# EAGLE library part XBEE_1-10 (library Cool_Electricity)
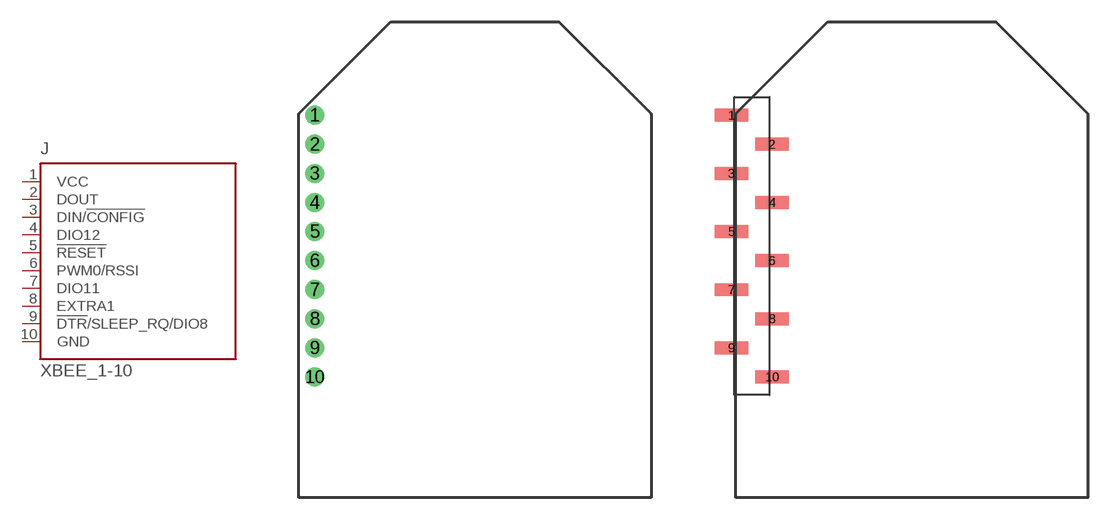
[diagram p14: symbol with the pads of XBEE_1-10; footprints XBEE_1-10, XBEE_1-10_SMT]

Designator prefix J

## XBEE_1-10  [XBEE_1-10]
1  VCC  pwr
2  DOUT  out
3  DIN/!CONFIG  in
4  DIO12
5  !RESET  in
6  PWM0/RSSI  out
7  DIO11  out
8  EXTRA1
9  !DTR!/SLEEP_RQ/DIO8
10  GND  pwr

## XBEE_1-10SMT  [XBEE_1-10_SMT]
Pads as for XBEE_1-10

## Footprint XBEE_1-10 (pad centres in mm)
drill 0.8 pad 1.27: 1 -11,9; 2 -11,7; 3 -11,5; 4 -11,3; 5 -11,1; 6 -11,-1; 7 -11,-3; 8 -11,-5; 9 -11,-7; 10 -11,-9

## Footprint XBEE_1-10_SMT (pad centres in mm)
smd 2.29 x 0.89: 1 -12.395,9; 2 -9.605,7; 3 -12.395,5; 4 -9.605,3; 5 -12.395,1; 6 -9.605,-1; 7 -12.395,-3; 8 -9.605,-5; 9 -12.395,-7; 10 -9.605,-9